# EAGLE library part CS5173 (library r1)
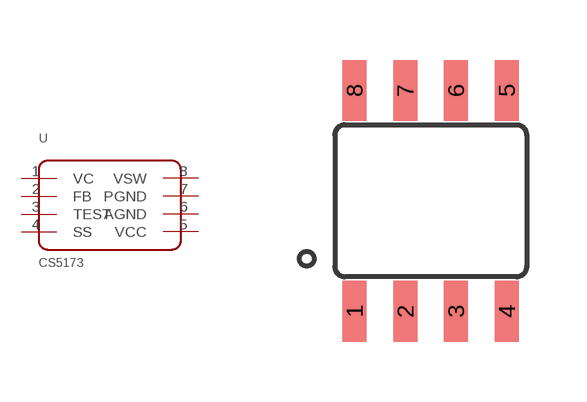
[diagram p5: symbol with the pads of SOIC−8; footprint SOIC−8]

Designator prefix -

## CS5173  [SOIC−8]
1  VC
2  FB
3  TEST
4  SS
5  VCC
6  AGND
7  PGND
8  VSW

## Footprint SOIC−8 (pad centres in mm)
smd 0.6 x 1.52: 1 -1.905,-2.76; 2 -0.635,-2.76; 3 0.635,-2.76; 4 1.905,-2.76; 5 1.905,2.76; 6 0.635,2.76; 7 -0.635,2.76; 8 -1.905,2.76